# EAGLE library part CHP-041TB (library 3DRobotics_Master_Library)
By Jordi Munoz, for DIYDrones.com (3DRRobotics LLC).
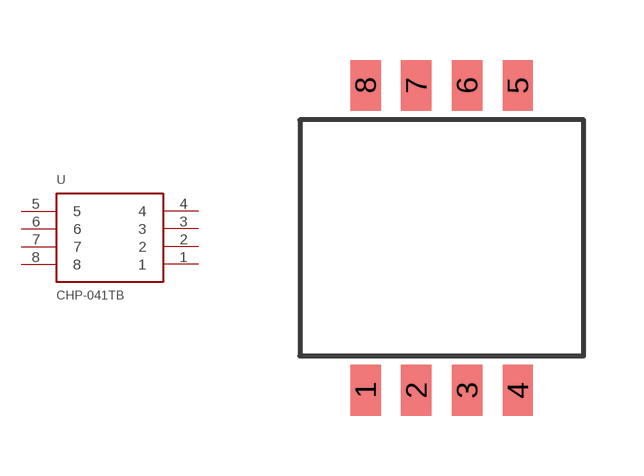
[diagram p6: symbol with the pads of CHP-041TB; footprint CHP-041TB]

Designator prefix -

## CHP-041TB (LINK: http://parts.digikey.com/1/parts/959542-switch-dip-piano-style-4-pos-smd-chp-041tb.html; MFGPN: CHP-041TB; PN: 563-1018-2-ND)  [CHP-041TB]
1  1  pas
2  2  pas
3  3  pas
4  4  pas
5  5  pas
6  6  pas
7  7  pas
8  8  pas

## Footprint CHP-041TB (pad centres in mm)
smd 0.76 x 1.27: 1 -1.905,-3.81; 2 -0.635,-3.81; 3 0.635,-3.81; 4 1.905,-3.81; 5 1.905,3.81; 6 0.635,3.81; 7 -0.635,3.81; 8 -1.905,3.81